# Altium footprint library FTSH-105-04-F-D.PcbLib: 1 footprints
Each footprint in its own frame and in the unit in brackets; x right, y up, seen from the top. Pads: shape width x height; smd on the part's side, far side on the other; paste and mask are expansions set on the pad; w line width, h text height; cw(c..) or ccw(c..) is an arc to the next point about the centre after c.
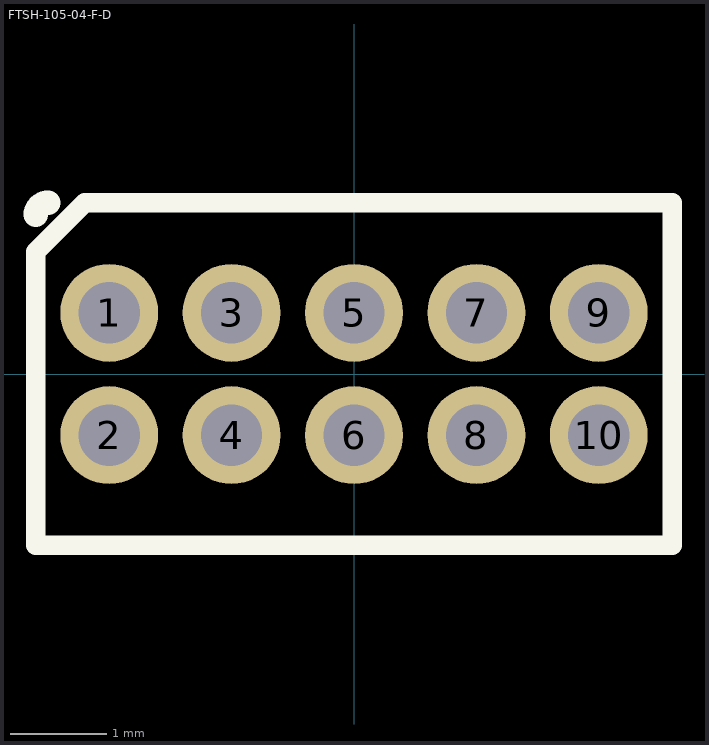
[diagram p0: the footprint, top view; thin cyan lines are the x and y axes]

## FTSH-105-04-F-D [mil]
pads (10):
  round 40 hole 25: 1(-100,25) 2(-100,-25) 3(-50,25) 4(-50,-25) 5(0,25) 6(0,-25) 7(50,25) 8(50,-25) 9(100,25) 10(100,-25)
Top Overlay:
  lines w8: -130,-70 -130,50 -110,70 130,70 130,-70 -130,-70
  lines w10: -130,65 cw(c-125,65) -125,70
3D body: height 254, standoff -85, extent -124.99,-67.49 125,67.51